# Altium footprint library INDC2012-0805.PcbLib: 1 footprints
Each footprint in its own frame and in the unit in brackets; x right, y up, seen from the top. Pads: shape width x height; smd on the part's side, far side on the other; paste and mask are expansions set on the pad; w line width, h text height; cw(c..) or ccw(c..) is an arc to the next point about the centre after c.
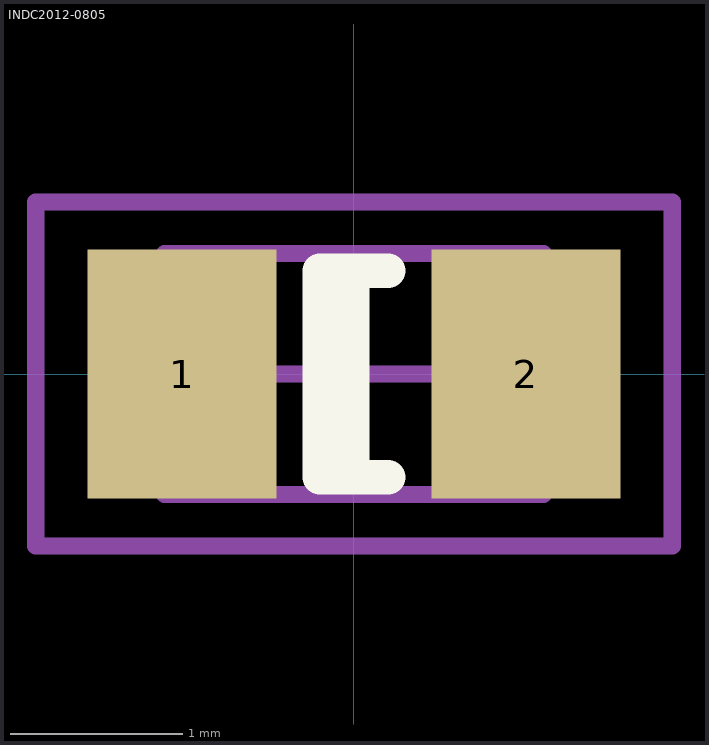
[diagram p0: the footprint, top view; thin cyan lines are the x and y axes]

## INDC2012-0805 [mm] "Chip Inductor, Body 2.0x1.2mm, IPC Medium Density"
height 1.1
pads (2):
  rect 1.1x1.45 smd: 1(-1,0) 2(1,0)
Top Overlay:
  lines w0.2: -0.01,-0.6 -0.01,0.6 ; 0.2,-0.6 -0.2,-0.6 -0.2,0.6 0.2,0.6
Mechanical 13:
  lines w0.1: -1.1,-0.7 1.1,-0.7 1.1,0.7 -1.1,0.7 -1.1,-0.7
Mechanical 15:
  lines w0.1: -0.5,0 0.5,0 ; 0,-0.5 0,0.5 ; -1.85,-1 1.85,-1 1.85,1 -1.85,1 -1.85,-1
3D body: height 1.1, standoff 0, extent -1.1,-0.7 1.1,0.7